# Altium schematic symbol library SL03-GS08.SchLib: 1 symbol
Pins are listed as number, name and electrical type; pins without a type are passive.

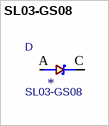
[diagram p0: symbol SL03-GS08]

## SL03-GS08
designator D  value SL03-GS08
MANUFACTURER: Vishay; Footprint: SODFL3718X108N; STANDARD: IPC7351B; PARTREV: 2.2
footprint SODFL3718X108N
pins: A, C